# Altium footprint library MLACHK_K.PCBLIB: 40 footprints (part 3 of 3)
Each footprint in its own frame and in the unit in brackets; x right, y up, seen from the top. Pads: shape width x height; smd on the part's side, far side on the other; paste and mask are expansions set on the pad; w line width, h text height; cw(c..) or ccw(c..) is an arc to the next point about the centre after c.
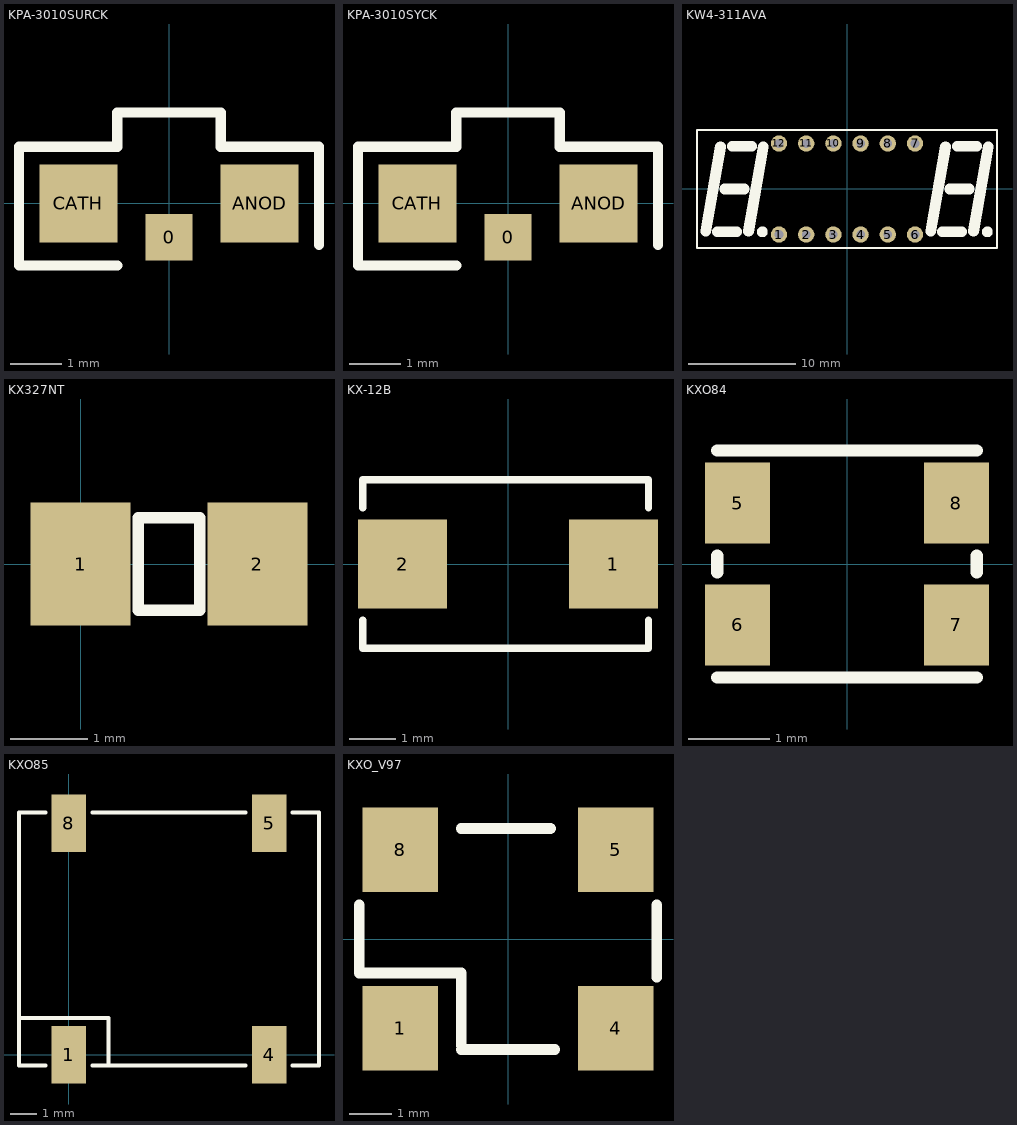
[diagram p2: the footprints below, top view; thin cyan lines are the x and y axes]

## KPA-3010SURCK [mm]
pads (3):
  rect 0.9x0.9 smd: 0(0,-0.65)
  rect 1.5x1.5 smd: ANOD(1.75,0) CATH(-1.75,0)
TopOverlay:
  lines w0.2: -1,-1.2 -2.9,-1.2 -2.9,1.1 -1,1.1 -1,1.76 1,1.76 1,1.1 2.9,1.1 2.9,-0.8
3D body: height 1, standoff 0, extent -1.5,-0.24 1.5,0.76
3D body: height 1, standoff 0, extent -1,0.76 1,1.76

## KPA-3010SYCK [mm]
pads (3):
  rect 0.9x0.9 smd: 0(0,-0.65)
  rect 1.5x1.5 smd: ANOD(1.75,0) CATH(-1.75,0)
TopOverlay:
  lines w0.2: -1,-1.2 -2.9,-1.2 -2.9,1.1 -1,1.1 -1,1.76 1,1.76 1,1.1 2.9,1.1 2.9,-0.8
3D body: height 1, standoff 0, extent -1,0.76 1,1.76
3D body: height 1, standoff 0, extent -1.5,-0.24 1.5,0.76

## KW4-311AVA [mil]
pads (12):
  round 60 hole 32: 1(-250,-167.32) 2(-150,-167.32) 3(-50,-167.32) 4(50,-167.32) 5(150,-167.32) 6(250,-167.32) 7(250,167.32) 8(150,167.32) 9(50,167.32) 10(-50,167.32) 11(-150,167.32) 12(-250,167.32)
TopOverlay:
  circle w19.68: c515.75,-157.48 r9.84
  circle w19.68: c-311.02,-157.48 r9.84
  lines w7.87: -551.18,-216.54 551.18,-216.54 551.18,216.54 -551.18,216.54 -551.18,-216.54
  lines w39.37: -519.47,-155.09 -464.78,155.09 ; -476.38,-157.48 -405.51,-157.48 ; -448.82,0 -377.95,0 ; -421.26,157.48 -350.39,157.48 ; -361.99,-155.09 -307.3,155.09 ; 307.3,-155.09 361.99,155.09 ; 350.39,-157.48 421.26,-157.48 ; 377.95,0 448.82,0 ; 405.51,157.48 476.38,157.48 ; 464.78,-155.09 519.47,155.09
3D body: height 200.79, standoff 188.98, extent -330.31,-177.17 -291.1,-137.87
3D body: height 200.79, standoff 192.91, extent -496.06,-177.17 -385.83,-137.8
3D body: height 200.79, standoff 192.91, extent -440.16,137.8 -329.92,177.17
3D body: height 200.79, standoff 192.91, extent -468.5,-19.68 -358.27,19.68
3D body: height 200.79, standoff 192.91, extent -351.18,0 -287.8,174.41
3D body: height 200.79, standoff 192.91, extent -381.89,-174.41 -318.11,0
3D body: height 200.79, standoff 192.91, extent -539.37,-174.41 -475.59,0
3D body: height 200.79, standoff 192.91, extent -508.66,0 -445.28,174.41
3D body: height 39.37, standoff 0, extent -551.18,-216.54 551.18,-181.1
3D body: height 39.37, standoff 0, extent -551.18,181.1 551.18,216.54
3D body: height 192.91, standoff 39.37, extent -551.18,-216.54 551.18,216.54
3D body: height 196.85, standoff 192.91, extent -551.18,-216.54 551.18,216.54
3D body: height 200.79, standoff 192.91, extent -233.07,0 -169.69,174.41
3D body: height 200.79, standoff 192.91, extent -263.78,-174.41 -200,0
3D body: height 200.79, standoff 192.91, extent -106.3,-174.41 -42.52,0
3D body: height 200.79, standoff 192.91, extent -75.59,0 -12.2,174.41
3D body: height 200.79, standoff 192.91, extent -192.91,-19.68 -82.68,19.68
3D body: height 200.79, standoff 192.91, extent -164.57,137.8 -54.33,177.17
3D body: height 200.79, standoff 192.91, extent -220.47,-177.17 -110.24,-137.8
3D body: height 200.79, standoff 188.98, extent -54.72,-177.17 -15.51,-137.87
3D body: height 200.79, standoff 192.91, extent 42.52,0 105.91,174.41
3D body: height 200.79, standoff 192.91, extent 11.81,-174.41 75.59,0
3D body: height 200.79, standoff 192.91, extent 169.29,-174.41 233.07,0
3D body: height 200.79, standoff 192.91, extent 200,0 263.39,174.41
3D body: height 200.79, standoff 192.91, extent 82.68,-19.68 192.91,19.68
3D body: height 200.79, standoff 192.91, extent 111.02,137.8 221.26,177.17
3D body: height 200.79, standoff 192.91, extent 55.12,-177.17 165.35,-137.8
3D body: height 200.79, standoff 188.98, extent 220.87,-177.17 260.08,-137.87
3D body: height 200.79, standoff 192.91, extent 318.11,0 381.5,174.41
3D body: height 200.79, standoff 192.91, extent 287.4,-174.41 351.18,0
3D body: height 200.79, standoff 192.91, extent 444.88,-174.41 508.66,0
3D body: height 200.79, standoff 192.91, extent 475.59,0 538.98,174.41
3D body: height 200.79, standoff 192.91, extent 358.27,-19.68 468.5,19.68
3D body: height 200.79, standoff 192.91, extent 386.61,137.8 496.85,177.17
3D body: height 200.79, standoff 192.91, extent 330.71,-177.17 440.94,-137.8
3D body: height 200.79, standoff 188.98, extent 496.46,-177.17 535.67,-137.87

## KX327NT [mil]
pads (2):
  rect 51x63 smd: 1(0,0) 2(90.55,0)
TopOverlay:
  lines w6: 29.53,-23.62 29.53,23.62 61.02,23.62 61.02,-23.62 29.53,-23.62

## KX-12B [mm]
pads (2):
  rect 1.905x1.905 smd: 1(2.25,0) 2(-2.25,0)
TopOverlay:
  lines w0.152: -3.1,-1.2 -3.1,-1.8 3,-1.8 3,-1.2 ; -3.1,1.2 -3.1,1.8 3,1.8 3,1.2

## KXO84 [mm]
pads (4):
  rect 0.8x1 smd: 5(-1.35,0.75) 6(-1.35,-0.75) 7(1.35,-0.75) 8(1.35,0.75)
TopOverlay:
  lines w0.152: -1.6,-1.4 1.6,-1.4 ; -1.6,-0.1 -1.6,0.1 ; -1.6,1.4 1.6,1.4 ; 1.6,-0.1 1.6,0.1

## KXO85 [mm]
pads (4):
  rect 1.3x2.2 smd: 1(0,0) 4(7.62,0) 5(7.62,8.8) 8(0,8.8)
TopOverlay:
  lines w0.152: -1.89,1.4 1.51,1.4 1.51,-0.4 ; -0.89,-0.4 -1.89,-0.4 -1.89,9.2 -0.89,9.2 ; 0.91,-0.4 6.71,-0.4 ; 0.91,9.2 6.71,9.2 ; 8.51,-0.4 9.51,-0.4 9.51,9.2 8.51,9.2

## KXO_V97 [mil]
pads (4):
  rect 70x78 smd: 1(-100,-82.68) 4(100,-82.68) 5(100,82.68) 8(-100,82.68)
TopOverlay:
  lines w10: -137.8,31.5 -137.8,-31.5 -43.31,-31.5 -43.31,-98.43 ; -43.31,-102.36 43.31,-102.36 ; -43.31,102.36 39.37,102.36 ; 137.8,-35.43 137.8,31.5